# EAGLE library part ZIF32 (library dsantoro-conn)
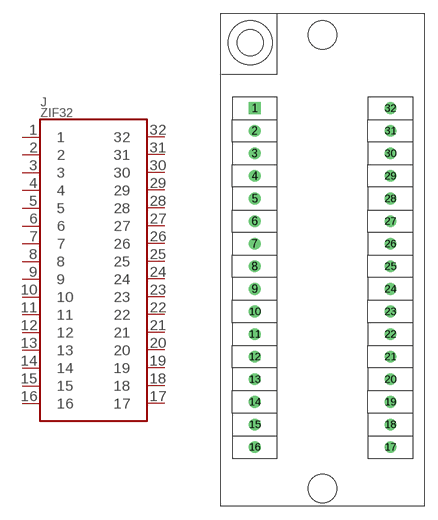
[diagram p18: symbol with the pads of ZIF32; footprint ZIF32]

Designator prefix J

## ZIF32  [ZIF32]
1  1
2  2
3  3
4  4
5  5
6  6
7  7
8  8
9  9
10  10
11  11
12  12
13  13
14  14
15  15
16  16
17  17
18  18
19  19
20  20
21  21
22  22
23  23
24  24
25  25
26  26
27  27
28  28
29  29
30  30
31  31
32  32

## Footprint ZIF32 (pad centres in mm)
drill 0.8 square: 1 0,0
drill 0.8: 2 0,-2.54; 3 0,-5.08; 4 0,-7.62; 5 0,-10.16; 6 0,-12.7; 7 0,-15.24; 8 0,-17.78; 9 0,-20.32; 10 0,-22.86; 11 0,-25.4; 12 0,-27.94; 13 0,-30.48; 14 0,-33.02; 15 0,-35.56; 16 0,-38.1; 17 15.24,-38.1; 18 15.24,-35.56; 19 15.24,-33.02; 20 15.24,-30.48; 21 15.24,-27.94; 22 15.24,-25.4; 23 15.24,-22.86; 24 15.24,-20.32; 25 15.24,-17.78; 26 15.24,-15.24; 27 15.24,-12.7; 28 15.24,-10.16; 29 15.24,-7.62; 30 15.24,-5.08; 31 15.24,-2.54; 32 15.24,0
hole 3.2 at 7.62,8.255
hole 3.2 at 7.62,-42.755